# Altium schematic symbol library ESP32-PICO-D4-KIT.SchLib: 1 symbol
Pins are listed as number, name and electrical type; pins without a type are passive.

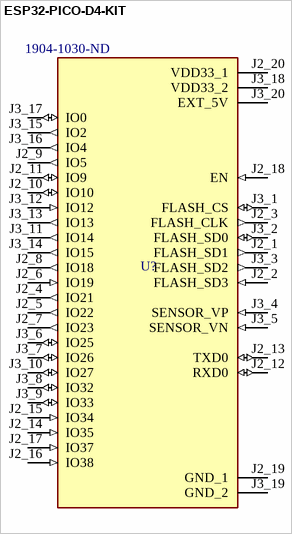
[diagram p0: symbol ESP32-PICO-D4-KIT]

## ESP32-PICO-D4-KIT
designator U?  Supplier Part Number 1: 1904-1030-ND  (hidden comment: *)
ESP32-PICO-D4 Through Hole Breakout Board Headers; Supplier 1: Digi-Key
footprint ESP32-PICO-D4-KIT
pins: J2_1 FLASH_SD1 (out), J2_2 FLASH_SD3 (in), J2_3 FLASH_CLK (out), J2_4 IO21 (out), J2_5 IO22 (out), J2_6 IO19 (in), J2_7 IO23 (out), J2_8 IO18 (out), J2_9 IO5 (out), J2_10 IO10 (io), J2_11 IO9 (io), J2_12 RXD0 (io), J2_13 TXD0 (io), J2_14 IO35 (in), J2_15 IO34 (in), J2_16 IO38 (in), J2_17 IO37 (in), J2_18 EN (in), J2_19 GND_1 (power), J2_20 VDD33_1 (power), J3_1 FLASH_CS (io), J3_2 FLASH_SD0 (io), J3_3 FLASH_SD2 (out), J3_4 SENSOR_VP (in), J3_5 SENSOR_VN (in), J3_6 IO25 (io), J3_7 IO26 (io), J3_8 IO32 (io), J3_9 IO33 (io), J3_10 IO27 (io), J3_11 IO14 (out), J3_12 IO12 (in), J3_13 IO13 (out), J3_14 IO15 (out), J3_15 IO2 (out), J3_16 IO4 (out), J3_17 IO0 (io), J3_18 VDD33_2 (power), J3_19 GND_2 (power), J3_20 EXT_5V (power)